# Altium footprint library RAPC722X.PcbLib: 1 footprints
Each footprint in its own frame and in the unit in brackets; x right, y up, seen from the top. Pads: shape width x height; smd on the part's side, far side on the other; paste and mask are expansions set on the pad; w line width, h text height; cw(c..) or ccw(c..) is an arc to the next point about the centre after c.
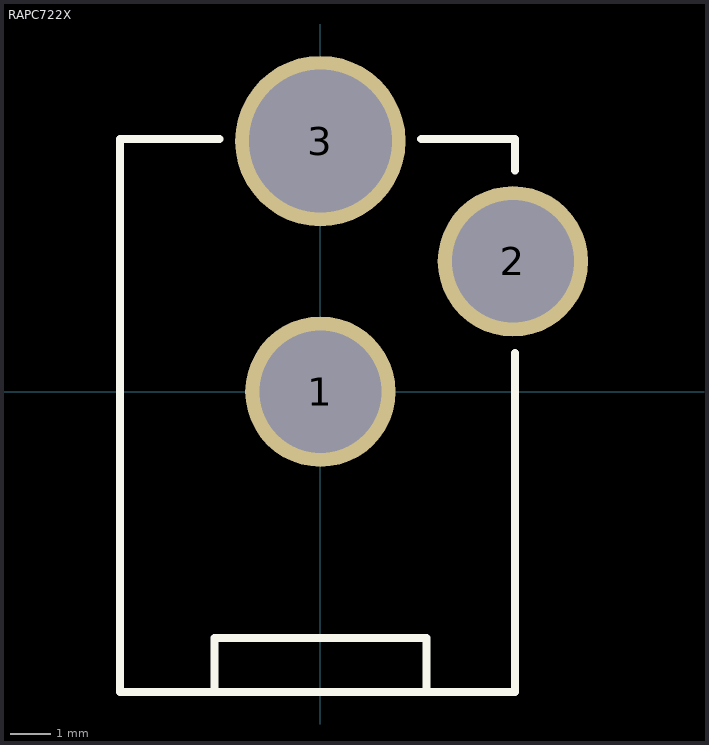
[diagram p0: the footprint, top view; thin cyan lines are the x and y axes]

## RAPC722X [mm] "Barrel Connector"
pads (3):
  round 3.75 hole 3.05: 1(0,0) 2(4.8,3.25)
  round 4.25 hole 3.56: 3(0,6.25)
Top Overlay:
  lines w0.2: -2.642,-7.49 -2.642,-6.147 2.642,-6.147 2.642,-7.493 ; -2.515,6.299 -5,6.299 -5,-7.49 4.851,-7.49 4.851,0.965 ; 2.515,6.299 4.851,6.299 4.851,5.512